# EAGLE library part DS3231M (library TimePassThrough)
DS3231M Real Time Clock. Accuracy +/-5ppm. Battery Backup. 2.3V to 5.5V.
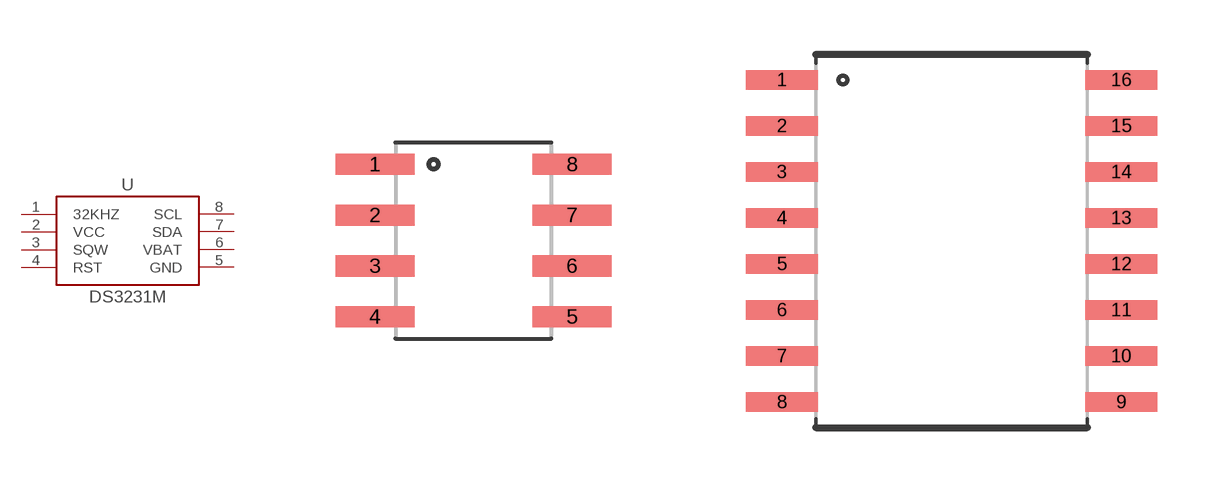
[diagram p0: symbol with the pads of S8MK+1; footprints S8MK+1, W16MK+1]

Designator prefix U

## DS3231MZ+ (PROD_ID: IC-11985)  [S8MK+1]
1  32KHZ  out
2  VCC  pwr
3  SQW  out
4  RST
5  GND  pwr
6  VBAT  pwr
7  SDA
8  SCL

## DS3231M+  [W16MK+1]
1  32KHZ  out
2  VCC  pwr
3  SQW  out
4  RST
5  GND  pwr
6  GND  pwr
7  GND  pwr
8  GND  pwr
9  GND  pwr
10  GND  pwr
11  GND  pwr
12  GND  pwr
13  GND  pwr
14  VBAT  pwr
15  SDA
16  SCL

## Footprint S8MK+1 (pad centres in mm)
Package Land Pattern, [S8] 0.150' SOIC, 8 Leads
smd 1.98 x 0.53: 1 -2.465,1.905; 2 -2.465,0.635; 3 -2.465,-0.635; 4 -2.465,-1.905; 5 2.465,-1.905; 6 2.465,-0.635; 7 2.465,0.635; 8 2.465,1.905

## Footprint W16MK+1 (pad centres in mm)
Package Land Pattern, [W16] 0.300' SOIC, 16 Leads
smd 1.98 x 0.53: 1 -4.685,4.445; 2 -4.685,3.175; 3 -4.685,1.905; 4 -4.685,0.635; 5 -4.685,-0.635; 6 -4.685,-1.905; 7 -4.685,-3.175; 8 -4.685,-4.445; 9 4.685,-4.445; 10 4.685,-3.175; 11 4.685,-1.905; 12 4.685,-0.635; 13 4.685,0.635; 14 4.685,1.905; 15 4.685,3.175; 16 4.685,4.445